# Altium schematic symbol library SCH - BATTERY MGMT - TI BQ27542DRZR-G1.SCHLIB: 1 symbol
Pins are listed as number, name and electrical type; pins without a type are passive.

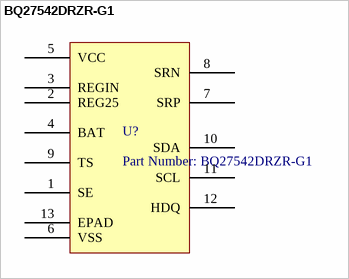
[diagram p0: symbol BQ27542DRZR-G1]

## BQ27542DRZR-G1
designator U?, comment Part Number: BQ27542DRZR-G1
No Description Available; Built_By: EMA_Jessica; Vendor: Texas Instruments; Copyright: Copyright (C) 2018 Accelerated Designs. All rights reserved; Manufacturer_Part_Number: BQ27542DRZR-G1; RefDes: RefDes; Type: DEV; Value: Value
pins: 1 SE, 2 REG25, 3 REGIN, 4 BAT, 5 VCC, 6 VSS, 7 SRP, 8 SRN, 9 TS, 10 SDA, 11 SCL, 12 HDQ, 13 EPAD